# Altium footprint library Heatsinks.PcbLib: 4 footprints
Each footprint in its own frame and in the unit in brackets; x right, y up, seen from the top. Pads: shape width x height; smd on the part's side, far side on the other; paste and mask are expansions set on the pad; w line width, h text height; cw(c..) or ccw(c..) is an arc to the next point about the centre after c.
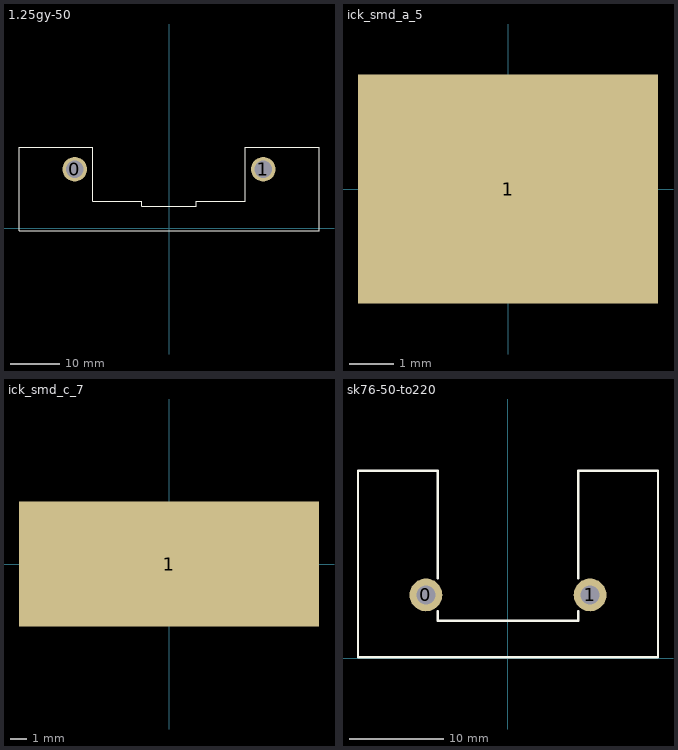
[diagram p0: the footprints below, top view; thin cyan lines are the x and y axes]

## 1.25gy-50 [mm] "Heatsink 1.25gy-50"
height 32
pads (2):
  round 5 hole 3.5: 0(-19.15,12) 1(19.15,12)
Top Overlay:
  lines w0.254: -30.5,-0.5 30.5,-0.5 30.5,16.5 15.5,16.5 15.5,5.5 5.5,5.5 5.5,4.5 -5.5,4.5 -5.5,5.5 -15.5,5.5 -15.5,16.5 -30.5,16.5 -30.5,-0.5
3D body: height 32, standoff 0, extent -30,0 30,16

## ick_smd_a_5 [mm]
height 5
pads (1):
  rect 6.8x5.2 smd paste-3.4: 1(0,0)
3D body "ick_smd_a_5.stp": height 4.8, standoff 0, extent -3.175,-2.5 3.175,2.5

## ick_smd_c_7 [mm]
height 7.5
pads (1):
  rect 18x7.5 smd paste-9: 1(0,0)
3D body "ick_smd_c_7.stp": height 7.55, standoff 0.05, extent -15.1,-3.5 14.9,3.5

## sk76-50-to220 [mm] "Heatsink 6k/w to220"
height 50
pads (2):
  round 3.5 hole 2: 0(-8.75,6.75) 1(8.75,6.75)
Top Overlay:
  lines w0.254: -7.5,5 -7.5,4 -4.713,4 5.22,4 7.5,4 7.5,5 ; -7.5,8.5 -7.5,20 -16,20 -16,0.1 16,0.1 16,20 7.5,20 7.5,8.5
3D body: height 32, standoff 0, extent -16,0.1 16,20